# EAGLE library part SM125-M1 (library Sonmicro)
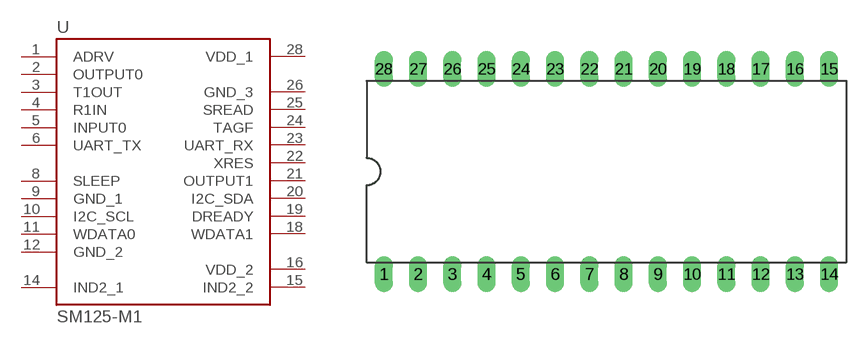
[diagram p0: symbol with the pads of DIL28; footprint DIL28]

Designator prefix -

## SM125-M1  [DIL28]
1  ADRV
2  OUTPUT0
3  T1OUT
4  R1IN
5  INPUT0
6  UART_TX
8  SLEEP
9  GND_1
10  I2C_SCL
11  WDATA0
12  GND_2
14  IND2_1
15  IND2_2
16  VDD_2
18  WDATA1
19  DREADY
20  I2C_SDA
21  OUTPUT1
22  XRES
23  UART_RX
24  TAGF
25  SREAD
26  GND_3
28  VDD_1

## Footprint DIL28 (pad centres in mm)
Dual In Line Package
drill 0.813 long: 1 -16.51,-7.62; 2 -13.97,-7.62; 3 -11.43,-7.62; 4 -8.89,-7.62; 5 -6.35,-7.62; 6 -3.81,-7.62; 7 -1.27,-7.62; 8 1.27,-7.62; 9 3.81,-7.62; 10 6.35,-7.62; 11 8.89,-7.62; 12 11.43,-7.62; 13 13.97,-7.62; 14 16.51,-7.62; 15 16.51,7.62; 16 13.97,7.62; 17 11.43,7.62; 18 8.89,7.62; 19 6.35,7.62; 20 3.81,7.62; 21 1.27,7.62; 22 -1.27,7.62; 23 -3.81,7.62; 24 -6.35,7.62; 25 -8.89,7.62; 26 -11.43,7.62; 27 -13.97,7.62; 28 -16.51,7.62